# Altium schematic symbol library ISMA5913BT3G.SCHLIB: 1 symbol
Pins are listed as number, name and electrical type; pins without a type are passive.

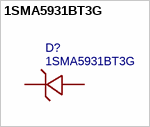
[diagram p0: symbol 1SMA5931BT3G]

## 1SMA5931BT3G
designator D?
BOM_Manufacturer: ON Semicon; Contributor: LCSC; SMT Type: Extend; BOM_Supplier: LCSC; BOM_Supplier Part: C94872; BOM_Manufacturer Part: 1SMA5931BT3G; BOM_LCSC Assembly: Yes; spicePre: D; spiceSymbolName: 1SMA5931BT3G
footprint SMA_L4.3-W2.6-LS5.2-RD
pins: 1 K, 2 A